# EAGLE library part PTN78020WAH (library DSDEagleLibrary)
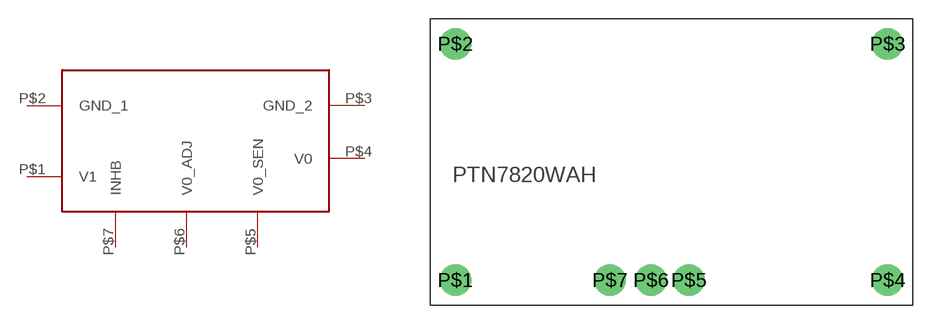
[diagram p0: symbol with the pads of PTN78020WAH; footprint PTN78020WAH]

Designator prefix -

## PTN78020WAH  [PTN78020WAH]
P$1  V1
P$2  GND_1
P$3  GND_2
P$4  V0
P$5  V0_SEN
P$6  V0_ADJ
P$7  INHB

## Footprint PTN78020WAH (pad centres in mm)
drill 1.4 pad 2.54: P$1 -22.352,-5.842; P$2 -22.352,13.208; P$3 12.446,13.208; P$4 12.446,-5.842; P$5 -3.556,-5.842; P$6 -6.604,-5.842; P$7 -9.906,-5.842